# Altium footprint library SPX3819M5-L-3-3.PcbLib: 3 footprints
Each footprint in its own frame and in the unit in brackets; x right, y up, seen from the top. Pads: shape width x height; smd on the part's side, far side on the other; paste and mask are expansions set on the pad; w line width, h text height; cw(c..) or ccw(c..) is an arc to the next point about the centre after c.
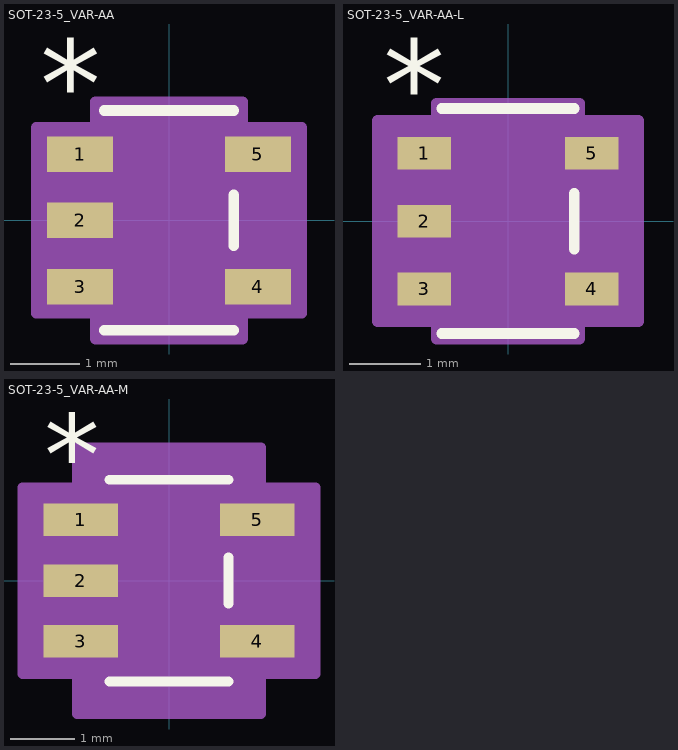
[diagram p0: the footprints below, top view; thin cyan lines are the x and y axes]

## SOT-23-5_VAR-AA [mil]
pads (5):
  rect 37.5x20 smd paste+0 mask+0: 1(-50.25,37.4) 2(-50.25,0) 3(-50.25,-37.4) 4(50.25,-37.4) 5(50.25,37.4)
Top Overlay:
  lines w6: -36.5,-62 36.5,-62 ; -36.5,62 36.5,62 ; 36.5,-14.3 36.5,14.3
  text "*" at -72.75,52.4 h50
Mechanical 13:
  lines w0: -12,57 ccw(c0,57) 12,57
  lines w1: -55,-47.4 -55,-27.4 -31.5,-27.4 -31.5,-47.4 -55,-47.4 ; -55,-10 -55,10 -31.5,10 -31.5,-10 -55,-10 ; -55,27.4 -55,47.4 -31.5,47.4 -31.5,27.4 -55,27.4 ; -31.5,-57 31.5,-57 31.5,57 -31.5,57 -31.5,-57 ; 31.5,-47.4 31.5,-27.4 55,-27.4 55,-47.4 31.5,-47.4 ; 31.5,27.4 31.5,47.4 55,47.4 55,27.4 31.5,27.4
  text "*" at -34,9.4 h50
Mechanical 15:
  region: 41.5,-67 -41.5,-67 -41.5,-52.4 -75,-52.4 -75,52.4 -41.5,52.4 -41.5,67 41.5,67 41.5,52.4 75,52.4 75,-52.4 41.5,-52.4
  lines w6: -75,-52.4 -41.5,-52.4 -41.5,-67 41.5,-67 41.5,-52.4 75,-52.4 75,52.4 41.5,52.4 41.5,67 -41.5,67 -41.5,52.4 -75,52.4 -75,-52.4
3D body "SOT-23-5_VAR-AA.step": height 57.09, standoff 0, extent -55,-57.01 55,57.01

## SOT-23-5_VAR-AA-L [mil]
pads (5):
  rect 29.5x18 smd paste+0 mask+0: 1(-46.25,37.4) 2(-46.25,0) 3(-46.25,-37.4) 4(46.25,-37.4) 5(46.25,37.4)
Top Overlay:
  lines w6: -36.5,-62 36.5,-62 ; -36.5,62 36.5,62 ; 36.5,-15.3 36.5,15.3
  text "*" at -68.75,50.4 h50
Mechanical 13:
  lines w0: -12,57 ccw(c0,57) 12,57
  lines w1: -55,-47.4 -55,-27.4 -31.5,-27.4 -31.5,-47.4 -55,-47.4 ; -55,-10 -55,10 -31.5,10 -31.5,-10 -55,-10 ; -55,27.4 -55,47.4 -31.5,47.4 -31.5,27.4 -55,27.4 ; -31.5,-57 31.5,-57 31.5,57 -31.5,57 -31.5,-57 ; 31.5,-47.4 31.5,-27.4 55,-27.4 55,-47.4 31.5,-47.4 ; 31.5,27.4 31.5,47.4 55,47.4 55,27.4 31.5,27.4
  text "*" at -34,7.4 h50
Mechanical 15:
  region: 39.5,-65 -39.5,-65 -39.5,-55.4 -72,-55.4 -72,55.4 -39.5,55.4 -39.5,65 39.5,65 39.5,55.4 72,55.4 72,-55.4 39.5,-55.4
  lines w6: -72,-55.4 -39.5,-55.4 -39.5,-65 39.5,-65 39.5,-55.4 72,-55.4 72,55.4 39.5,55.4 39.5,65 -39.5,65 -39.5,55.4 -72,55.4 -72,-55.4
3D body "SOT-23-5_VAR-AA.step": height 57.09, standoff 0, extent -55,-57.01 55,57.01

## SOT-23-5_VAR-AA-M [mil]
pads (5):
  rect 45.5x20 smd paste+0 mask+0: 1(-54.25,37.4) 2(-54.25,0) 3(-54.25,-37.4) 4(54.25,-37.4) 5(54.25,37.4)
Top Overlay:
  lines w6: -36.5,-62 36.5,-62 ; -36.5,62 36.5,62 ; 36.5,-14.3 36.5,14.3
  text "*" at -76.75,52.4 h50
Mechanical 13:
  lines w0: -12,57 ccw(c0,57) 12,57
  lines w1: -55,-47.4 -55,-27.4 -31.5,-27.4 -31.5,-47.4 -55,-47.4 ; -55,-10 -55,10 -31.5,10 -31.5,-10 -55,-10 ; -55,27.4 -55,47.4 -31.5,47.4 -31.5,27.4 -55,27.4 ; -31.5,-57 31.5,-57 31.5,57 -31.5,57 -31.5,-57 ; 31.5,-47.4 31.5,-27.4 55,-27.4 55,-47.4 31.5,-47.4 ; 31.5,27.4 31.5,47.4 55,47.4 55,27.4 31.5,27.4
  text "*" at -34,9.4 h50
Mechanical 15:
  region: 56.5,-82 -56.5,-82 -56.5,-57.4 -90,-57.4 -90,57.4 -56.5,57.4 -56.5,82 56.5,82 56.5,57.4 90,57.4 90,-57.4 56.5,-57.4
  lines w6: -90,-57.4 -56.5,-57.4 -56.5,-82 56.5,-82 56.5,-57.4 90,-57.4 90,57.4 56.5,57.4 56.5,82 -56.5,82 -56.5,57.4 -90,57.4 -90,-57.4
3D body "SOT-23-5_VAR-AA.step": height 57.09, standoff 0, extent -55,-57.01 55,57.01